# EAGLE library part ADF4350 (library AnalogDevices)
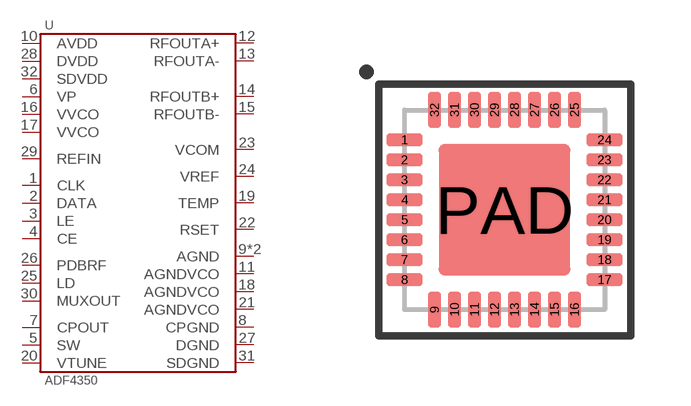
[diagram p11: symbol with the pads of WFQFN-32-5MM; footprint WFQFN-32-5MM]

Designator prefix U

## ADF4350BCPZ  [WFQFN-32-5MM]
1  CLK
2  DATA
3  LE
4  CE
5  SW
6  VP
7  CPOUT
8  CPGND
9  AGND
10  AVDD
11  AGNDVCO
12  RFOUTA+
13  RFOUTA-
14  RFOUTB+
15  RFOUTB-
16  VVCO
17  VVCO
18  AGNDVCO
19  TEMP
20  VTUNE
21  AGNDVCO
22  RSET
23  VCOM
24  VREF
25  LD
26  PDBRF
27  DGND
28  DVDD
29  REFIN
30  MUXOUT
31  SDGND
32  SDVDD
PAD  AGND

## Footprint WFQFN-32-5MM (pad centres in mm)
smd 0.9 x 0.325: 1 -2.5,1.75; 2 -2.5,1.25; 3 -2.5,0.75; 4 -2.5,0.25; 5 -2.5,-0.25; 6 -2.5,-0.75; 7 -2.5,-1.25; 8 -2.5,-1.75; 17 2.5,-1.75; 18 2.5,-1.25; 19 2.5,-0.75; 20 2.5,-0.25; 21 2.5,0.25; 22 2.5,0.75; 23 2.5,1.25; 24 2.5,1.75
smd 0.325 x 0.9: 9 -1.75,-2.5; 10 -1.25,-2.5; 11 -0.75,-2.5; 12 -0.25,-2.5; 13 0.25,-2.5; 14 0.75,-2.5; 15 1.25,-2.5; 16 1.75,-2.5; 25 1.75,2.5; 26 1.25,2.5; 27 0.75,2.5; 28 0.25,2.5; 29 -0.25,2.5; 30 -0.75,2.5; 31 -1.25,2.5; 32 -1.75,2.5
smd 3.3 x 3.3: PAD 0,0